# EAGLE library part 4DB-P108-06 (library 4DB-P108-06)
Check prices <https://pricing.snapeda.com/parts/4DB-P108-06/TE%20Connectivity/view-part?ref=eda>
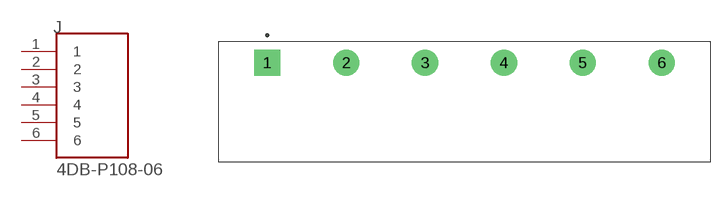
[diagram p0: symbol with the pads of TE_2-1437667-9; footprint TE_2-1437667-9]

Designator prefix J

## 4DB-P108-06 (Availability: Good; Comment: 2-1437667-9; Description: 6 Circuit 0.325 (8.26mm) Barrier Block Connector, Screws with Captive Plate; MF: TE Connectivity; MP: 4DB-P108-06; Package: None; Price: None; Purchase-URL: https://pricing.snapeda.com/search/part/4DB-P108-06/?ref=eda)  [TE_2-1437667-9]
1  1  pas
2  2  pas
3  3  pas
4  4  pas
5  5  pas
6  6  pas

## Footprint TE_2-1437667-9 (pad centres in mm)
drill 1.83 square: 1 -20.65,0
drill 1.83: 2 -12.39,0; 3 -4.13,0; 4 4.13,0; 5 12.39,0; 6 20.65,0